# Altium footprint library 5015680807.PcbLib: 1 footprints
Each footprint in its own frame and in the unit in brackets; x right, y up, seen from the top. Pads: shape width x height; smd on the part's side, far side on the other; paste and mask are expansions set on the pad; w line width, h text height; cw(c..) or ccw(c..) is an arc to the next point about the centre after c.
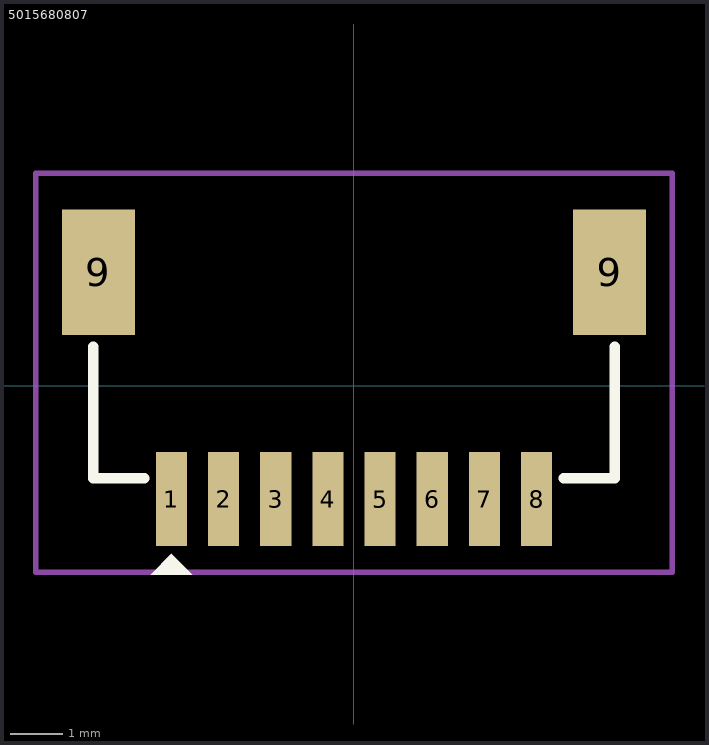
[diagram p0: the footprint, top view; thin cyan lines are the x and y axes]

## 5015680807 [mm]
pads (10):
  rect 0.6x1.8 smd: 1(-3.5,-2.175) 2(-2.5,-2.175) 3(-1.5,-2.175) 4(-0.5,-2.175) 5(0.5,-2.175) 6(1.5,-2.175) 7(2.5,-2.175) 8(3.5,-2.175)
  rect 1.4x2.4 smd: 9(-4.9,2.175) 9(4.9,2.175)
Top Overlay:
  region: -3.1,-3.625 -3.9,-3.625 -3.5,-3.225
  lines w0.2: -5,0.75 -5,-1.775 -4.025,-1.775 ; 4.025,-1.775 5,-1.775 5,0.75
Top Courtyard:
  lines w0.1: -6.1,3.375 -6.1,4.075 ; 5,4.075 6.1,4.075 ; -6.1,4.075 -6.1,-3.575 6.1,-3.575 6.1,4.075 ; -6.1,4.075 6.1,4.075
3D body "5015680807.stp": height 4.7, standoff 0, extent -5,-2.325 5,3.575